# EAGLE library part APXK004A0X-SRZ (library ge-critical-power)
16V PicoTLynxTM 4A: Non-Isolated DC-DC Power Modules 8Vdc –16Vdc input; 0.6Vdc to 8.0Vdc output; 4A Output Current Source: http://apps.geindustrial.com/publibrary/checkout/APXK004A0X?TNR=Data%20Sheets|APXK004A0X|generic
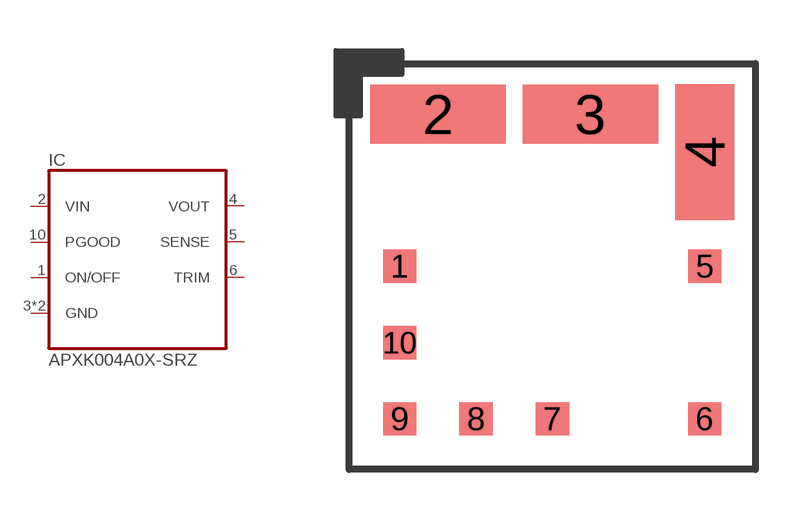
[diagram p0: symbol with the pads of APXK004A0X-SRZ; footprint APXK004A0X-SRZ]

Designator prefix IC

## APXK004A0X-SRZ  [APXK004A0X-SRZ]
1  ON/OFF  in
2  VIN  in
3  GND  pwr
4  VOUT  pas
5  SENSE  in
6  TRIM  in
7  GND  pwr
10  PGOOD  out

## Footprint APXK004A0X-SRZ (pad centres in mm)
smd 1 x 1: 1 -4.575,0.005; 5 4.575,0.005; 6 4.575,-4.575; 7 0.005,-4.575; 8 -2.285,-4.575; 9 -4.575,-4.575; 10 -4.575,-2.285
smd 4.07 x 1.77: 2 -3.425,4.575; 3 1.145,4.575
smd 1.77 x 4.07: 4 4.575,3.435